# EAGLE library part MICROSD (library bt_electromech)
MicroSD Card Socket
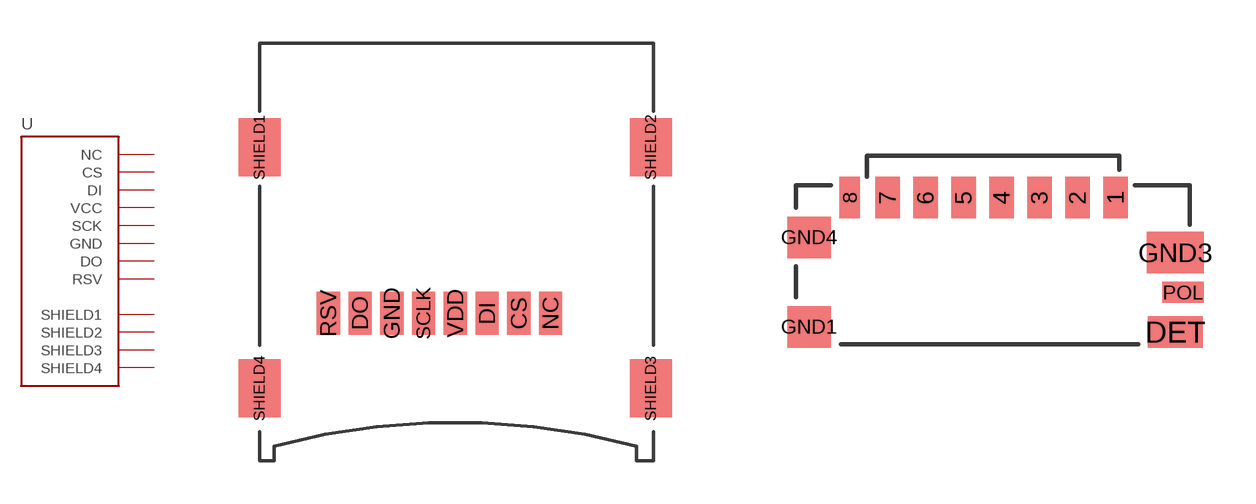
[diagram p0: symbol with the pads of TFLASH_CP-0000-086; footprints TFLASH_CP-0000-086, USD_SMALL]

Designator prefix U

## MICROSD_TFLASH  [TFLASH_CP-0000-086]
CS  CS
DI  DI
DO  DO
GND  GND
NC  NC
RSV  RSV
SCLK  SCK
SHIELD1  SHIELD1
SHIELD2  SHIELD2
SHIELD3  SHIELD3
SHIELD4  SHIELD4
VDD  VCC

## MICROSD_SMALL  [USD_SMALL]
1  NC
2  CS
3  DI
4  VCC
5  SCK
6  GND
7  DO
8  RSV
DET  SHIELD2
GND1  SHIELD1
GND3  SHIELD3
GND4  SHIELD4

## Footprint TFLASH_CP-0000-086 (pad centres in mm)
smd 0.8 x 1.5: CS 8.98,2.6; DI 7.88,2.6; DO 3.48,2.6; GND 4.58,2.6; NC 10.08,2.6; RSV 2.38,2.6; SCLK 5.68,2.6; VDD 6.78,2.6
smd 1.45 x 2: SHIELD1 0,8.35; SHIELD2 13.56,8.35; SHIELD3 13.56,0; SHIELD4 0,0

## Footprint USD_SMALL (pad centres in mm)
Compact MicroSD Card Socket
smd 0.7 x 1.2: 1 3.55,-1.21; 2 2.45,-1.21; 3 1.35,-1.21; 4 0.25,-1.21; 5 -0.85,-1.21; 6 -1.95,-1.21; 7 -3.05,-1.21
smd 0.6 x 1.2: 8 -4.15,-1.21
smd 1.6 x 0.9: DET 5.275,-5.1
smd 1.25 x 1.2: GND1 -5.325,-4.95; GND4 -5.325,-2.36
smd 1.65 x 1.2: GND3 5.275,-2.8
smd 1.2 x 0.6: POL 5.5,-3.95